# Altium footprint library Tesis Pcb Lib 1.PcbLib: 21 footprints (part 1 of 2)
Each footprint in its own frame and in the unit in brackets; x right, y up, seen from the top. Pads: shape width x height; smd on the part's side, far side on the other; paste and mask are expansions set on the pad; w line width, h text height; cw(c..) or ccw(c..) is an arc to the next point about the centre after c.
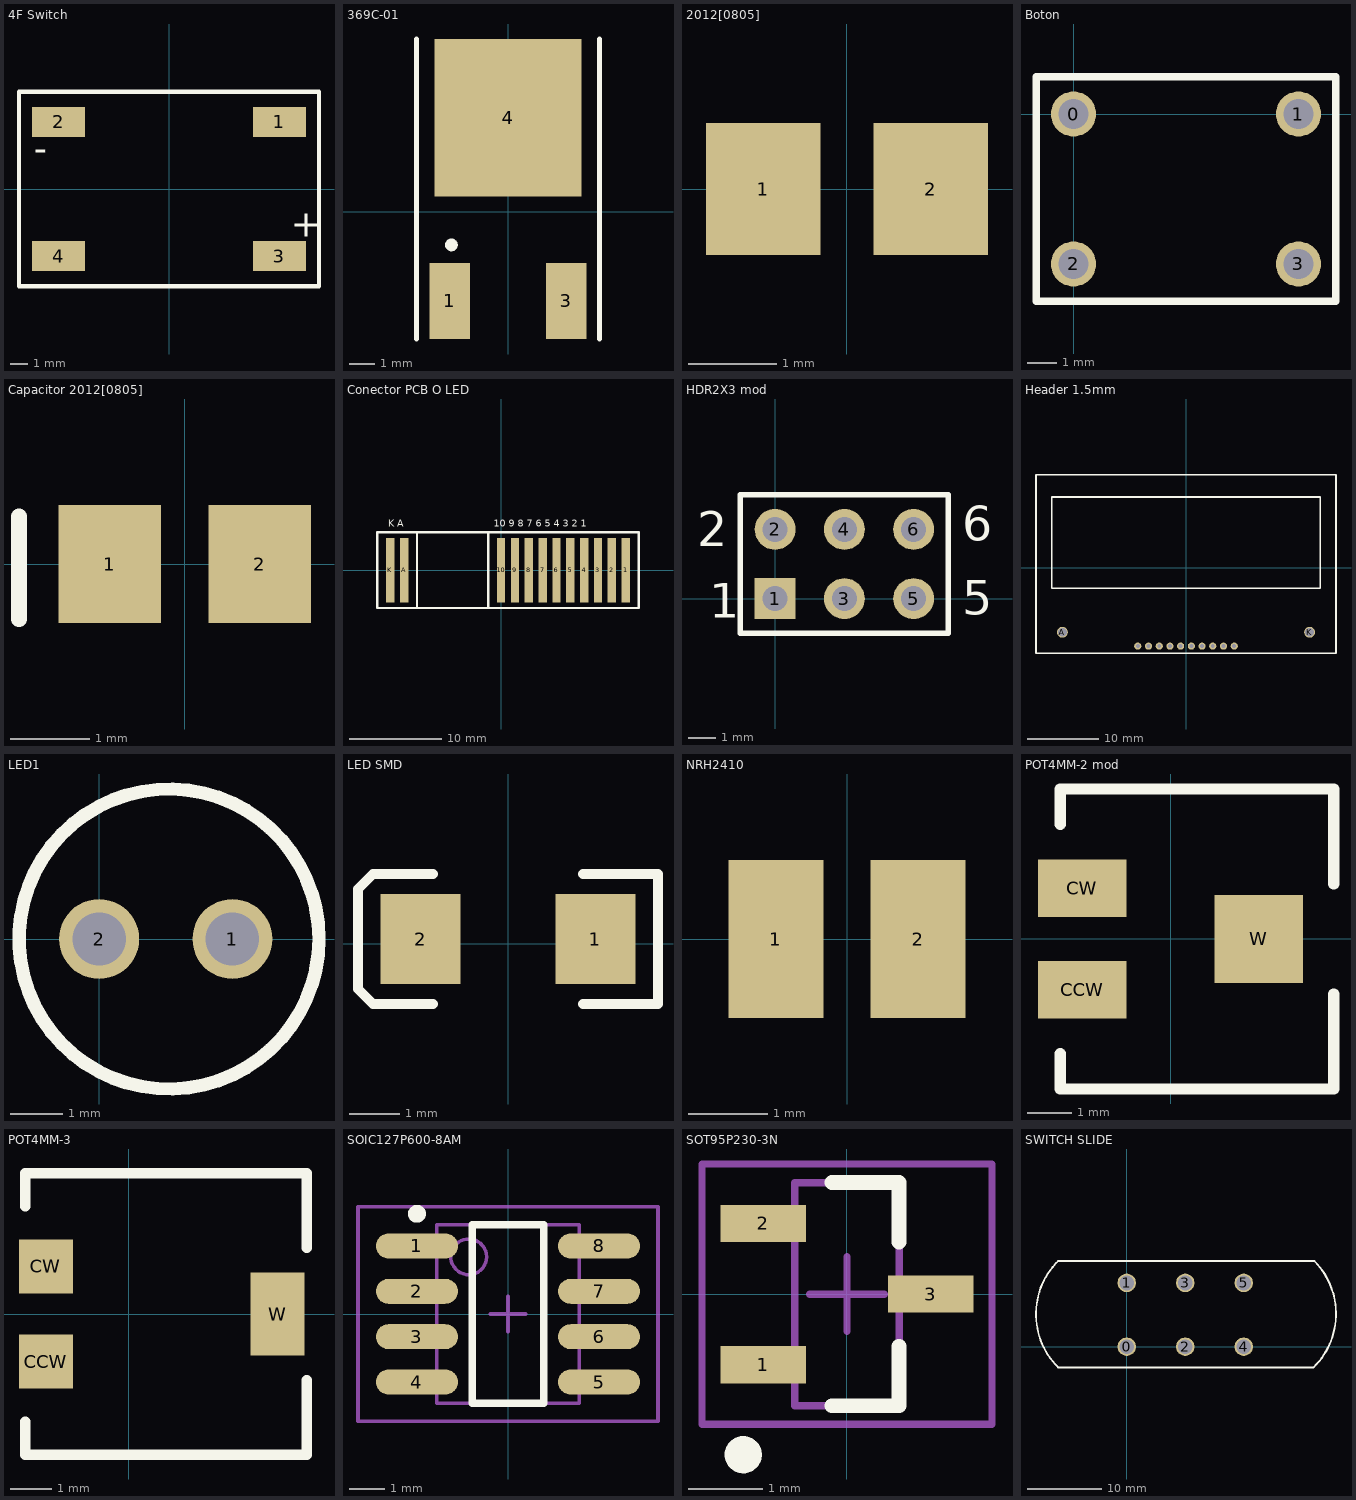
[diagram p0: the footprints below, top view; thin cyan lines are the x and y axes]

## 4F Switch [mm] "Tactile switch with LED"
pads (4):
  rect 3x1.7 smd: 1(6.25,3.81) 2(-6.25,3.81) 3(6.25,-3.81) 4(-6.25,-3.81)
Top Overlay:
  lines w0.254: -8.5,-5.5 8.5,-5.5 8.5,5.5 -8.5,5.5 -8.5,-5.5
  text "+" at 6.9,-2.7 h1.52
  text "-" at -6.9,2.7 h1.52

## 369C-01 [mil] "D-PAK/TO-252-AA; 3 Leads (1 Cropped); Body 10.3 (inc. leads) x 6.7 mm (LxW max)"
height 93.7
pads (3):
  rect 63x118 smd: 1(-90,-137.8) 3(90,-137.8)
  rect 228x244 smd: 4(0,145.67)
Top Overlay:
  circle w9.84: c-87.6,-51.18 r4.92
  lines w7.87: -141.73,-196.85 -141.73,267.72 ; 141.73,-196.85 141.73,267.72

## 2012[0805] [mm]
pads (2):
  rect 1.3x1.5 smd: 1(-0.95,0) 2(0.95,0)

## Boton [mil]
pads (4):
  round 60 hole 40: 0(0,0) 1(300,0) 2(0,-200) 3(300,-200)
Top Overlay:
  lines w10: -50,-250 350,-250 350,50 -50,50 -50,-250

## Capacitor 2012[0805] [mm]
pads (2):
  rect 1.3x1.5 smd: 1(-0.95,0) 2(0.95,0)
Top Overlay:
  lines w0.2: -2.1,-0.7 -2.1,0.6

## Conector PCB O LED [mm]
pads (12):
  rect 0.9x7 smd: 1(13.5,0) 2(12,0) 3(10.5,0) 4(9,0) 5(7.5,0) 6(6,0) 7(4.5,0) 8(3,0) 9(1.5,0) 10(0,0) A(-10.5,0) K(-12,0)
Top Overlay:
  lines w0.254: -1.3,-4.1 -9.1,-4.1 ; -1.3,4.1 -9.1,4.1 ; -9.1,-4.1 -13.4,-4.1 -13.4,4.1 -9.1,4.1 ; -9.1,-4.1 -9.1,4.1 ; -1.4,-4.1 14.9,-4.1 14.9,4.1 -1.4,4.1 -1.4,-4.1
  text "K A" at -12.2,4.7 h0.75
  text "10 9 8 7 6 5 4 3 2 1" at -0.8,4.7 h0.75

## HDR2X3 mod [mm]
pads (6):
  rect 1.5x1.5 hole 0.914: 1(0,0)
  round 1.5 hole 0.914: 2(0,2.54) 3(2.54,0) 4(2.54,2.54) 5(5.08,0) 6(5.08,2.54)
Top Overlay:
  lines w0.2: 1.482,-1.27 6.35,-1.27 ; 6.35,-1.27 6.35,3.81 -1.27,3.81 -1.27,-1.27 6.35,-1.27
  text "6" at 6.864,2.128 h1.27
  text "5" at 6.864,-0.597 h1.27
  text "2" at -2.861,1.928 h1.27
  text "1" at -2.411,-0.697 h1.27

## Header 1.5mm [mm] "Header pitch 1.5mm"
pads (12):
  round 1 hole 0.55: 1(6.75,-11) 2(5.25,-11) 3(3.75,-11) 4(2.25,-11) 5(0.75,-11) 6(-0.75,-11) 7(-2.25,-11) 8(-3.75,-11) 9(-5.25,-11) 10(-6.75,-11)
  round 1.524 hole 1.22: A(-17.3,-9.05) K(17.3,-9.05)
Top Overlay:
  lines w0.254: -21,-12 -21,13 21,13 21,-12 -21,-12 ; -18.8,-2.9 18.8,-2.9 18.8,9.9 -18.8,9.9 -18.8,-2.9

## LED1 [mil]
pads (2):
  round 60 hole 40: 1(100,0) 2(0,0)
Top Overlay:
  circle w10: c52.42,0 r112.58

## LED SMD [mm] "5.0x1.5mm"
pads (2):
  rect 1.6x1.8 smd: 1(1.75,0.1) 2(-1.75,0.1)
Top Overlay:
  lines w0.203: -1.5,-1.2 -2.7,-1.2 -3,-0.9 -3,1.1 -2.7,1.4 -1.5,1.4 ; 1.5,-1.2 3,-1.2 3,1.4 1.5,1.4

## NRH2410 [mm]
pads (2):
  rect 1.2x2 smd: 1(-0.9,0) 2(0.9,0)

## POT4MM-2 mod [mm]
pads (3):
  rect 2x1.3 smd: CCW(-2,-1.15) CW(-2,1.15)
  rect 2x2 smd: W(2,0)
Top Overlay:
  lines w0.254: -2.5,-2.6 -2.5,-3.4 3.7,-3.4 3.7,-1.25 ; -2.5,2.6 -2.5,3.4 3.7,3.4 3.7,1.25

## POT4MM-3 [mm]
pads (3):
  rect 1.3x1.3 smd: CCW(-2,-1.15) CW(-2,1.15)
  rect 1.3x2 smd: W(3.6,0)
Top Overlay:
  lines w0.254: -2.5,-2.6 -2.5,-3.4 4.3,-3.4 4.3,-1.6 ; -2.5,2.6 -2.5,3.4 4.3,3.4 4.3,1.6

## SOIC127P600-8AM [mm] "SOIC, 8-Leads, Body 4.9x3.9mm, Pitch 1.27mm, IPC Low Density"
height 2.72
pads (8):
  oval 2.3x0.7 smd: 1(-2.55,1.905) 2(-2.55,0.635) 3(-2.55,-0.635) 4(-2.55,-1.905) 5(2.55,-1.905) 6(2.55,-0.635) 7(2.55,0.635) 8(2.55,1.905)
Top Overlay:
  circle w0.25: c-2.55,2.805 r0.125
  lines w0.2: -1,-2.5 -1,2.5 1,2.5 1,-2.5 -1,-2.5
Mechanical 13:
  circle w0.1: c-1.1,1.6 r0.5
  lines w0.1: -2,-2.5 -2,2.5 2,2.5 2,-2.5 -2,-2.5
Mechanical 15:
  lines w0.1: -0.5,0 0.5,0 ; 0,-0.5 0,0.5 ; -4.2,-3 -4.2,3 4.2,3 4.2,-3 -4.2,-3
3D body: height 2.72, standoff 0, extent -2,-2.5 2,2.5

## SOT95P230-3N [mm] "SOT23, 3-Leads, Body 2.9x1.3mm, Pitch 0.95mm, Lead Span 2.3mm - Alternate Lead Configuration, IPC Medium Density"
height 1.1
pads (3):
  rect 1.15x0.5 smd mask+0.05: 1(-1.125,-0.95) 2(-1.125,0.95) 3(1.125,0)
Top Overlay:
  circle w0.25: c-1.395,-2.159 r0.125
  lines w0.2: -0.2,-1.5 0.7,-1.5 0.7,-0.7 ; -0.2,1.5 0.7,1.5 0.7,0.7
Mechanical 13:
  lines w0.1: -0.7,-1.5 0.7,-1.5 0.7,1.5 -0.7,1.5 -0.7,-1.5
Mechanical 15:
  lines w0.1: -0.5,0 0.5,0 ; 0,-0.5 0,0.5 ; -1.95,-1.75 1.95,-1.75 1.95,1.75 -1.95,1.75 -1.95,-1.75
3D body: height 1.1, standoff 0, extent -0.7,-1.5 0.7,1.5

## SWITCH SLIDE [mm]
pads (6):
  round 2.5 hole 2: 0(0,0) 1(0,8.64) 2(7.92,0) 3(7.92,8.64) 4(15.84,0) 5(15.84,8.64)
Top Overlay:
  lines w0.254: -9.34,-2.8 25.2,-2.8 ; -9.3,-2.8 cw(c-2.1,4.4) -9.3,11.6 ; -9.24,11.6 25.3,11.6 ; 25.3,-2.8 ccw(c18.15,4.45) 25.4,11.6